# Altium schematic symbol library BusAndInterfaceDesign.SchLib: 24 symbols
Pins are listed as number, name and electrical type; pins without a type are passive.

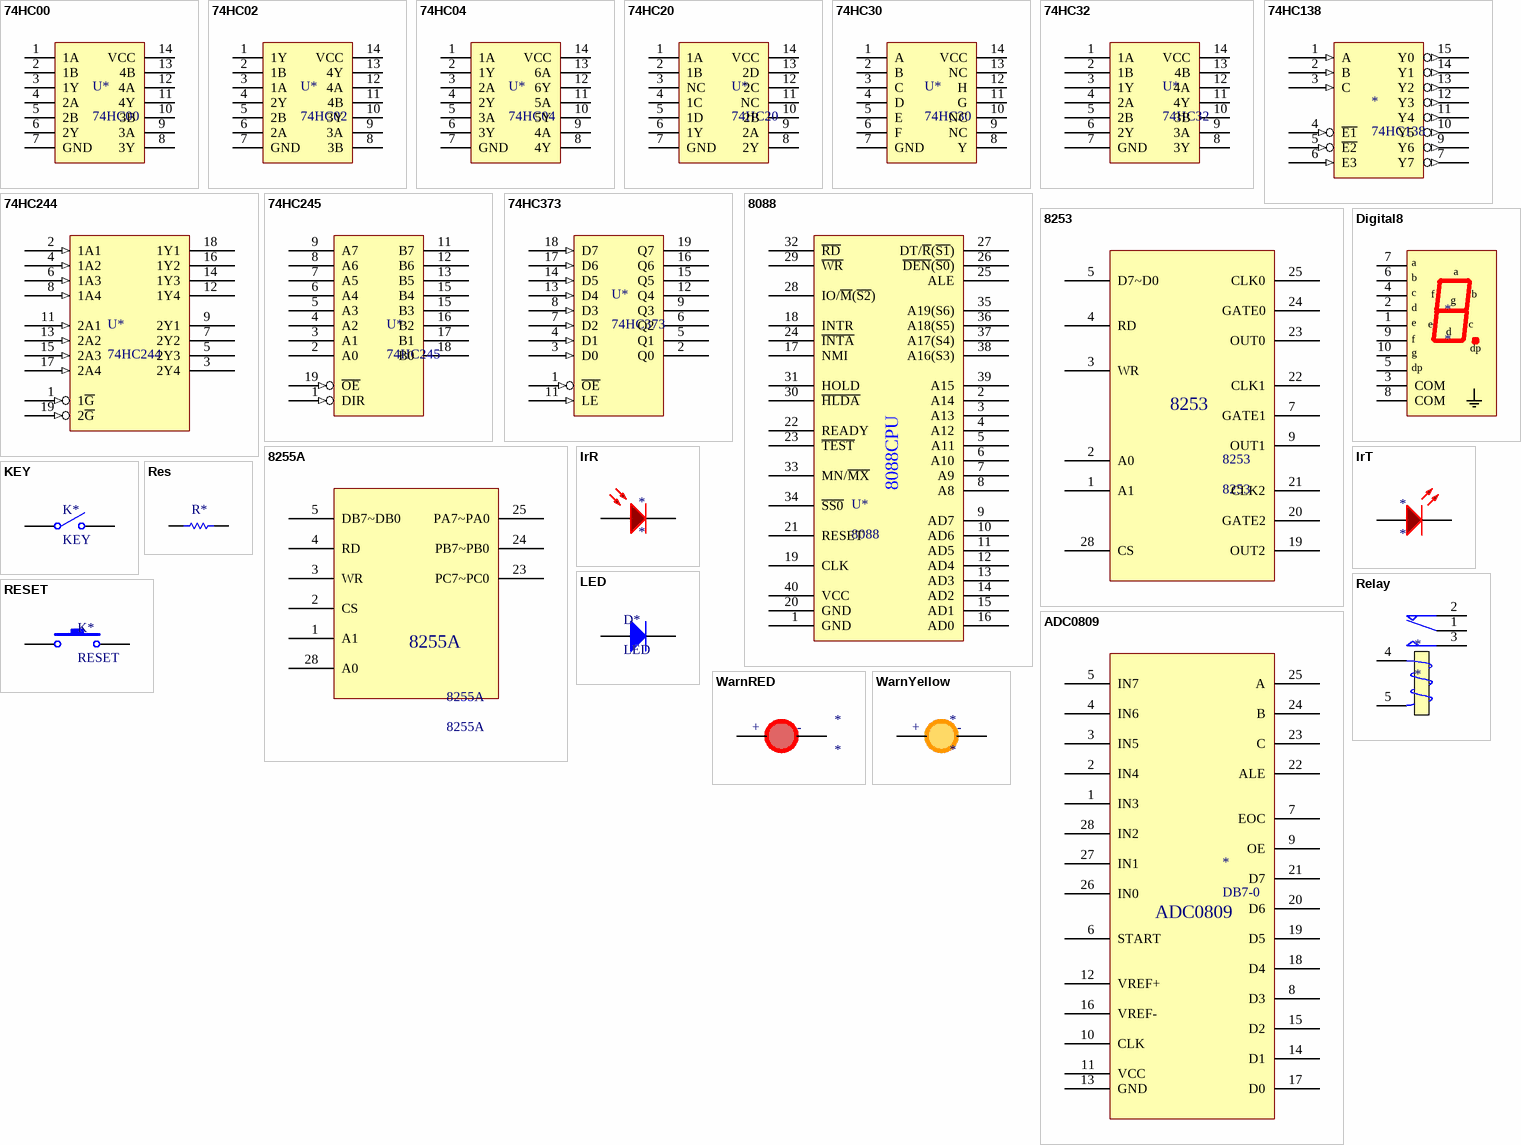
[diagram p0: symbols 74HC00 to WarnYellow]

## 74HC00
designator U*
footprint BAID2 (Footprint not found)
pins: 1 1A, 2 1B, 3 1Y, 4 2A, 5 2B, 6 2Y, 7 GND, 8 3Y, 9 3A, 10 3B, 11 4Y, 12 4A, 13 4B, 14 VCC

## 74HC02
designator U*
footprint BAID2 (Footprint not found)
pins: 1 1Y, 2 1B, 3 1A, 4 2Y, 5 2B, 6 2A, 7 GND, 8 3B, 9 3A, 10 3Y, 11 4B, 12 4A, 13 4Y, 14 VCC

## 74HC04
designator U*
footprint BAID2 (Footprint not found)
pins: 1 1A, 2 1Y, 3 2A, 4 2Y, 5 3A, 6 3Y, 7 GND, 8 4Y, 9 4A, 10 5Y, 11 5A, 12 6Y, 13 6A, 14 VCC

## 74HC20
designator U*
footprint BAID2 (Footprint not found)
pins: 1 1A, 2 1B, 3 NC, 4 1C, 5 1D, 6 1Y, 7 GND, 8 2Y, 9 2A, 10 2B, 11 NC, 12 2C, 13 2D, 14 VCC

## 74HC30
designator U*
footprint BAID2 (Footprint not found)
pins: 1 A, 2 B, 3 C, 4 D, 5 E, 6 F, 7 GND, 8 Y, 9 NC, 10 NC, 11 G, 12 H, 13 NC, 14 VCC

## 74HC32
designator U*
footprint BAID2 (Footprint not found)
pins: 1 1A, 2 1B, 3 1Y, 4 2A, 5 2B, 6 2Y, 7 GND, 8 3Y, 9 3A, 10 3B, 11 4Y, 12 4A, 13 4B, 14 VCC

## 74HC138
designator *
footprint BAID2 (Footprint not found)
pins: 1 A (in), 2 B (in), 3 C (in), 4 ~{E1} (in), 5 ~{E2} (in), 6 E3 (in), 7 Y7 (out), 9 Y6 (out), 10 Y5 (out), 11 Y4 (out), 12 Y3 (out), 13 Y2 (out), 14 Y1 (out), 15 Y0 (out)

## 74HC244
designator U*
footprint BAID2 (Footprint not found)
pins: 1 1~{G} (in), 2 1A1 (in), 3 2Y4 (hiz), 4 1A2 (in), 5 2Y3 (hiz), 6 1A3 (in), 7 2Y2 (hiz), 8 1A4 (in), 9 2Y1 (hiz), 11 2A1 (in), 12 1Y4 (hiz), 13 2A2 (in), 14 1Y3 (hiz), 15 2A3 (in), 16 1Y2 (hiz), 17 2A4 (in), 18 1Y1 (hiz), 19 2~{G} (in)

## 74HC245
designator U*
footprint BAID2 (Footprint not found)
pins: 1 DIR (in), 2 A0, 3 A1, 4 A2, 5 A3, 6 A4, 7 A5, 8 A6, 9 A7, 11 B7 (hiz), 12 B6 (hiz), 13 B5 (hiz), 15 B3 (hiz), 15 B4 (hiz), 16 B2 (hiz), 17 B1 (hiz), 18 B0 (hiz), 19 ~{OE} (in)

## 74HC373
designator U*
footprint BAID2 (Footprint not found)
pins: 1 ~{OE} (in), 2 Q0 (hiz), 3 D0 (in), 4 D1 (in), 5 Q1 (hiz), 6 Q2 (hiz), 7 D2 (in), 8 D3 (in), 9 Q3 (hiz), 11 LE (in), 12 Q4 (hiz), 13 D4 (in), 14 D5 (in), 15 Q5 (hiz), 16 Q6 (hiz), 17 D6 (in), 18 D7 (in), 19 Q7 (hiz)

## 8088
designator U*
footprint BAID2 (Footprint not found)
pins: 1 GND, 2 A14, 3 A13, 4 A12, 5 A11, 6 A10, 7 A9, 8 A8, 9 AD7, 10 AD6, 11 AD5, 12 AD4, 13 AD3, 14 AD2, 15 AD1, 16 AD0, 17 NMI, 18 INTR, 19 CLK, 20 GND, 21 RESET, 22 READY, 23 ~{TEST}, 24 ~{INTA}, 25 ALE, 26 ~{DEN}(~{S0}), 27 DT/~{R}(~{S1}), 28 IO/~{M}(~{S2}), 29 ~{WR}, 30 ~{HLDA}, 31 HOLD, 32 ~{RD}, 33 MN/~{MX}, 34 ~{SS0}, 35 A19(S6), 36 A18(S5), 37 A17(S4), 38 A16(S3), 39 A15, 40 VCC
text: 8088CPU

## 8253
designator 8253
footprint BAID2 (Footprint not found)
pins: 1 A1, 2 A0, 3 WR, 4 RD, 5 D7~D0, 7 GATE1, 9 OUT1, 19 OUT2, 20 GATE2, 21 CLK2, 22 CLK1, 23 OUT0, 24 GATE0, 25 CLK0, 28 CS

## 8255A
designator 8255A
footprint BAID2 (Footprint not found)
pins: 1 A1, 2 CS, 3 WR, 4 RD, 5 DB7~DB0, 23 PC7~PC0, 24 PB7~PB0, 25 PA7~PA0, 28 A0

## ADC0809
designator *, comment DB7-0
footprint BAID2 (Footprint not found)
pins: 1 IN3, 2 IN4, 3 IN5, 4 IN6, 5 IN7, 6 START, 7 EOC, 8 D3, 9 OE, 10 CLK, 11 VCC, 12 VREF+, 13 GND, 14 D1, 15 D2, 16 VREF-, 17 D0, 18 D4, 19 D5, 20 D6, 21 D7, 22 ALE, 23 C, 24 B, 25 A, 26 IN0, 27 IN1, 28 IN2

## Digital8
designator *
footprint BAID2 (Footprint not found)
pins: 1 e, 2 d, 3 COM, 4 c, 5 dp, 6 b, 7 a, 8 COM, 9 f, 10 g

## IrR
designator *
footprint BAID2 (Footprint not found)
pins: 1 A, 2 K

## IrT
designator *
footprint BAID2 (Footprint not found)
pins: 1 A, 2 K

## KEY
designator K*
footprint BAID2 (Footprint not found)
pins: 1 COMMON, 2 NO

## LED
designator D*
footprint BAID2 (Footprint not found)
pins: 1 A, 2 K

## Relay
designator *
footprint BAID2 (Footprint not found)
pins: 1 COM, 2 NC, 3 NO, 4 T1, 5 T2

## Res
designator R*  (value not drawn)
footprint BAID2 (Footprint not found)
pins: 1, 2

## RESET
designator K*
footprint BAID2 (Footprint not found)
pins: 1, 2

## WarnRED
designator *
footprint BAID2 (Footprint not found)
pins: 1 A, 2 K
text: +; -

## WarnYellow
designator *
footprint BAID2 (Footprint not found)
pins: 1 A, 2 K
text: +; -